# Altium integrated library Linear Technology Power Management Switching Regulator LTC1174-LTC3901.IntLib: 2647 symbols (part 91 of 364)
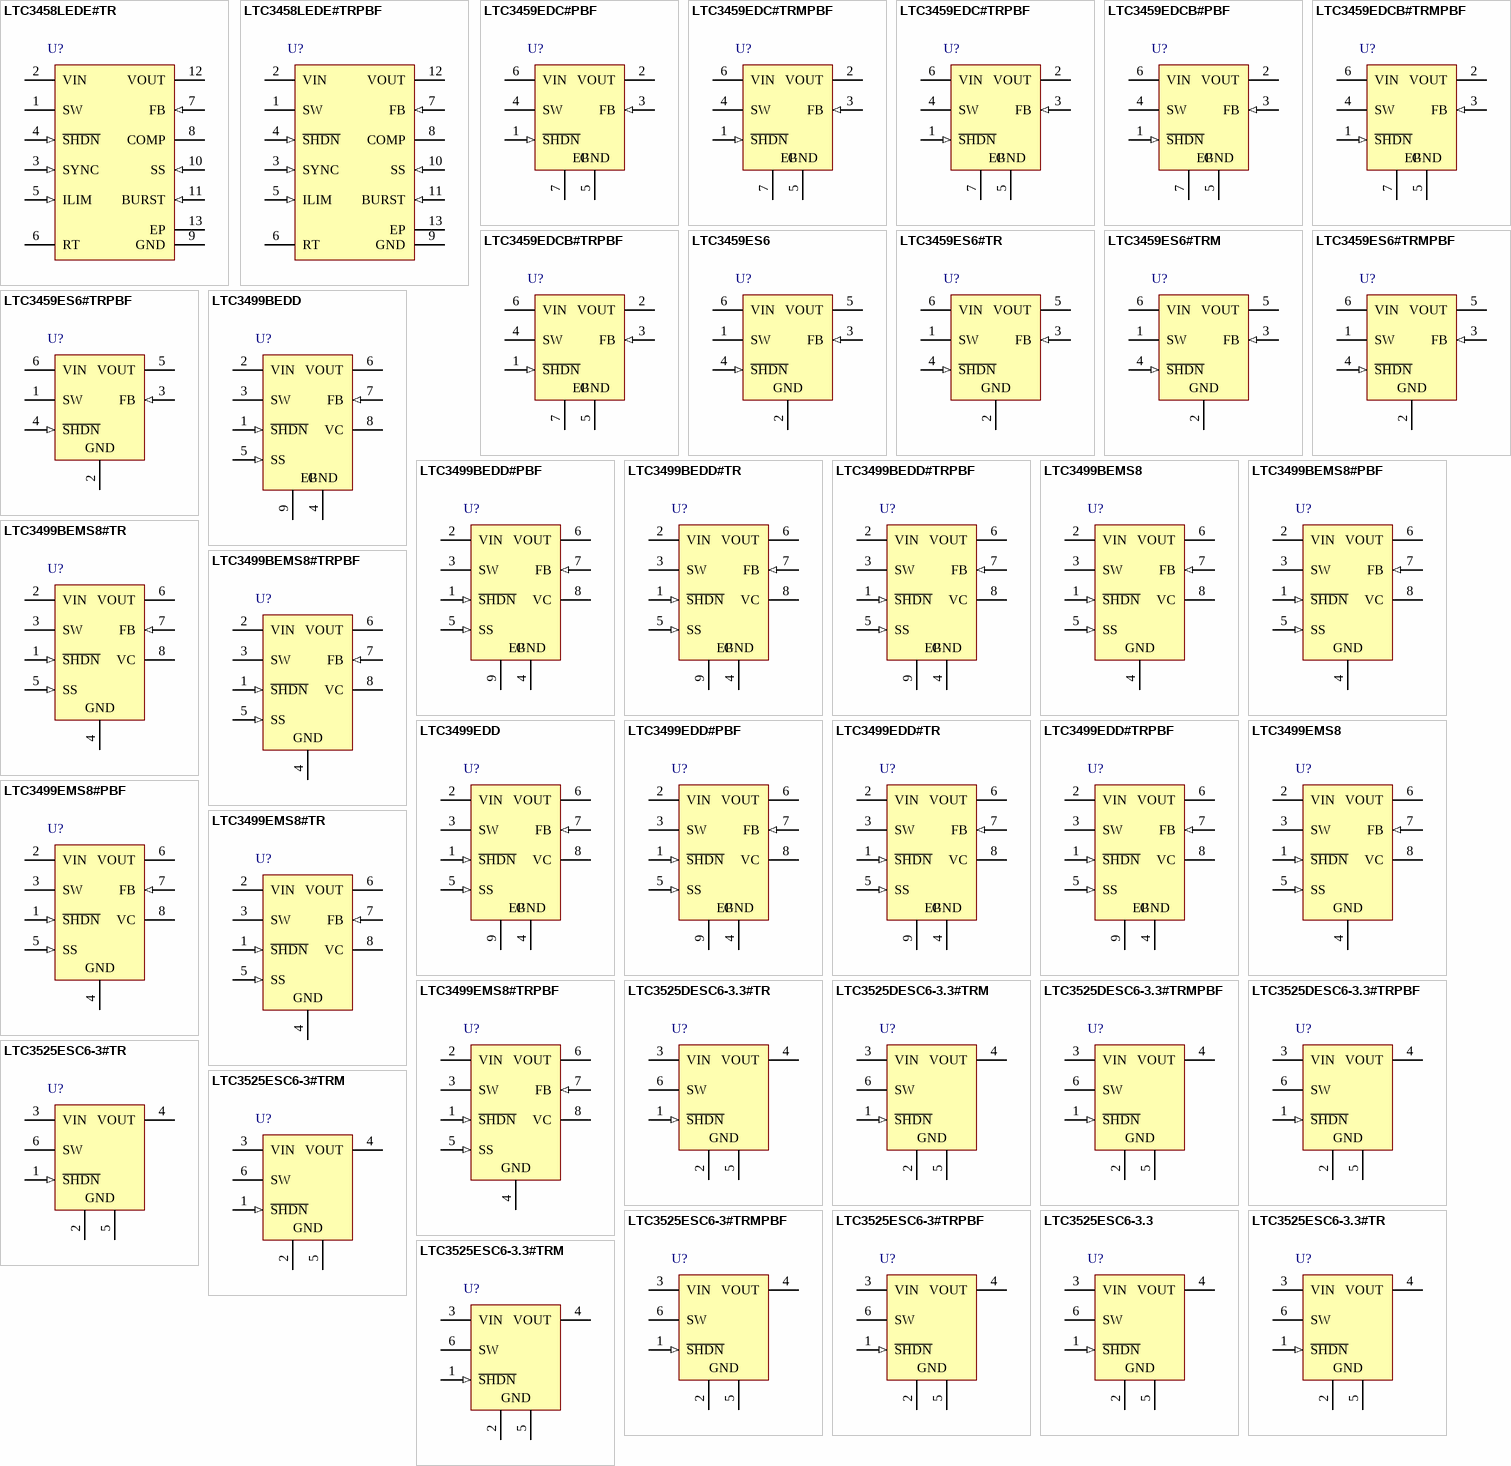
[diagram p261: symbols LTC3458LEDE#TR to LTC3525ESC6-3.3#TRM]

## LTC3525ESC6-3.3
designator U?
400 mA Micropower Synchronous Step-Up DC/DC Converter with Output Disconnect, 6-pin SOT23 (SC6-6), -40 to 85 degC; Manufacturer: Linear Technology; PartNumber: LTC3525ESC6-3.3; Number of Outputs: 1; DatasheetVersion: Rev. B; PackageVersion: Rev. B, 06/2010; PackageReference: SC6-6; PackageDescription: 6-Pin Plastic SC70, Body 2 x 1.25 mm, Pitch 0.65 mm; RoHS: FALSE; Mounting Technology: Surface Mount; Code_JEDEC: MO-203; ComponentLink1Description: Manufacturer URL; ComponentLink1URL: http://www.linear.com/; ComponentLink2Description: Datasheet; ComponentLink2URL: http://cds.linear.com/docs/en/datasheet/3525fb.pdf; ComponentLink3Description: Package Specification; ComponentLink3URL: http://cds.linear.com/docs/en/packaging/SOT_6_05-08-1638.pdf
footprint LT-SC6-6-SC70_N (SOT23, 6-Leads, Body 2.2x1.35mm, Pitch 0.65mm, IPC Medium Density)
footprint LT-SC6-6-SC70_L (SOT23, 6-Leads, Body 2.2x1.35mm, Pitch 0.65mm, IPC High Density)
footprint LT-SC6-6-SC70_M (SOT23, 6-Leads, Body 2.2x1.35mm, Pitch 0.65mm, IPC Low Density)
pins: 1 ~{SHDN} (in) "Logic-Controlled Shutdown Input.", 2 GND (power) "Ground.", 3 VIN (power) "Input Voltage.", 4 VOUT (power) "Output Voltage Sense and the Output of the Synchronous Rectifier. Connect the output filter capacitor from VOUT to GND, close to the IC. A minimum value of 10uF ceramic is recommended. Use 22uF for reduced output ripple.", 5 GND (power) "Ground.", 6 SW "Switch Pin. Connect an inductor from this pin to VIN. An internal antiringing resistor is connected across SW and VIN after the inductor current has dropped to zero to minimize EMI."

## LTC3525ESC6-3.3#TR
designator U?
400 mA Micropower Synchronous Step-Up DC/DC Converter with Output Disconnect, 6-pin SOT23 (SC6-6), -40 to 85 degC, Tape and Reel; Manufacturer: Linear Technology; PartNumber: LTC3525ESC6-3.3#TR; Number of Outputs: 1; DatasheetVersion: Rev. B; PackageVersion: Rev. B, 06/2010; PackageReference: SC6-6; PackageDescription: 6-Pin Plastic SC70, Body 2 x 1.25 mm, Pitch 0.65 mm; Packing: Tape and Reel; RoHS: FALSE; Mounting Technology: Surface Mount; Code_JEDEC: MO-203; ComponentLink1Description: Manufacturer URL; ComponentLink1URL: http://www.linear.com/; ComponentLink2Description: Datasheet; ComponentLink2URL: http://cds.linear.com/docs/en/datasheet/3525fb.pdf; ComponentLink3Description: Package Specification; ComponentLink3URL: http://cds.linear.com/docs/en/packaging/SOT_6_05-08-1638.pdf
footprint LT-SC6-6-SC70_N (SOT23, 6-Leads, Body 2.2x1.35mm, Pitch 0.65mm, IPC Medium Density)
footprint LT-SC6-6-SC70_L (SOT23, 6-Leads, Body 2.2x1.35mm, Pitch 0.65mm, IPC High Density)
footprint LT-SC6-6-SC70_M (SOT23, 6-Leads, Body 2.2x1.35mm, Pitch 0.65mm, IPC Low Density)
pins: 1 ~{SHDN} (in) "Logic-Controlled Shutdown Input.", 2 GND (power) "Ground.", 3 VIN (power) "Input Voltage.", 4 VOUT (power) "Output Voltage Sense and the Output of the Synchronous Rectifier. Connect the output filter capacitor from VOUT to GND, close to the IC. A minimum value of 10uF ceramic is recommended. Use 22uF for reduced output ripple.", 5 GND (power) "Ground.", 6 SW "Switch Pin. Connect an inductor from this pin to VIN. An internal antiringing resistor is connected across SW and VIN after the inductor current has dropped to zero to minimize EMI."

## LTC3525ESC6-3.3#TRM
designator U?
400 mA Micropower Synchronous Step-Up DC/DC Converter with Output Disconnect, 6-pin SOT23 (SC6-6), -40 to 85 degC, Mini Tape and Reel; Manufacturer: Linear Technology; PartNumber: LTC3525ESC6-3.3#TRM; Number of Outputs: 1; DatasheetVersion: Rev. B; PackageVersion: Rev. B, 06/2010; PackageReference: SC6-6; PackageDescription: 6-Pin Plastic SC70, Body 2 x 1.25 mm, Pitch 0.65 mm; Packing: Mini Tape and Reel; RoHS: FALSE; Mounting Technology: Surface Mount; Code_JEDEC: MO-203; ComponentLink1Description: Manufacturer URL; ComponentLink1URL: http://www.linear.com/; ComponentLink2Description: Datasheet; ComponentLink2URL: http://cds.linear.com/docs/en/datasheet/3525fb.pdf; ComponentLink3Description: Package Specification; ComponentLink3URL: http://cds.linear.com/docs/en/packaging/SOT_6_05-08-1638.pdf
footprint LT-SC6-6-SC70_N (SOT23, 6-Leads, Body 2.2x1.35mm, Pitch 0.65mm, IPC Medium Density)
footprint LT-SC6-6-SC70_L (SOT23, 6-Leads, Body 2.2x1.35mm, Pitch 0.65mm, IPC High Density)
footprint LT-SC6-6-SC70_M (SOT23, 6-Leads, Body 2.2x1.35mm, Pitch 0.65mm, IPC Low Density)
pins: 1 ~{SHDN} (in) "Logic-Controlled Shutdown Input.", 2 GND (power) "Ground.", 3 VIN (power) "Input Voltage.", 4 VOUT (power) "Output Voltage Sense and the Output of the Synchronous Rectifier. Connect the output filter capacitor from VOUT to GND, close to the IC. A minimum value of 10uF ceramic is recommended. Use 22uF for reduced output ripple.", 5 GND (power) "Ground.", 6 SW "Switch Pin. Connect an inductor from this pin to VIN. An internal antiringing resistor is connected across SW and VIN after the inductor current has dropped to zero to minimize EMI."

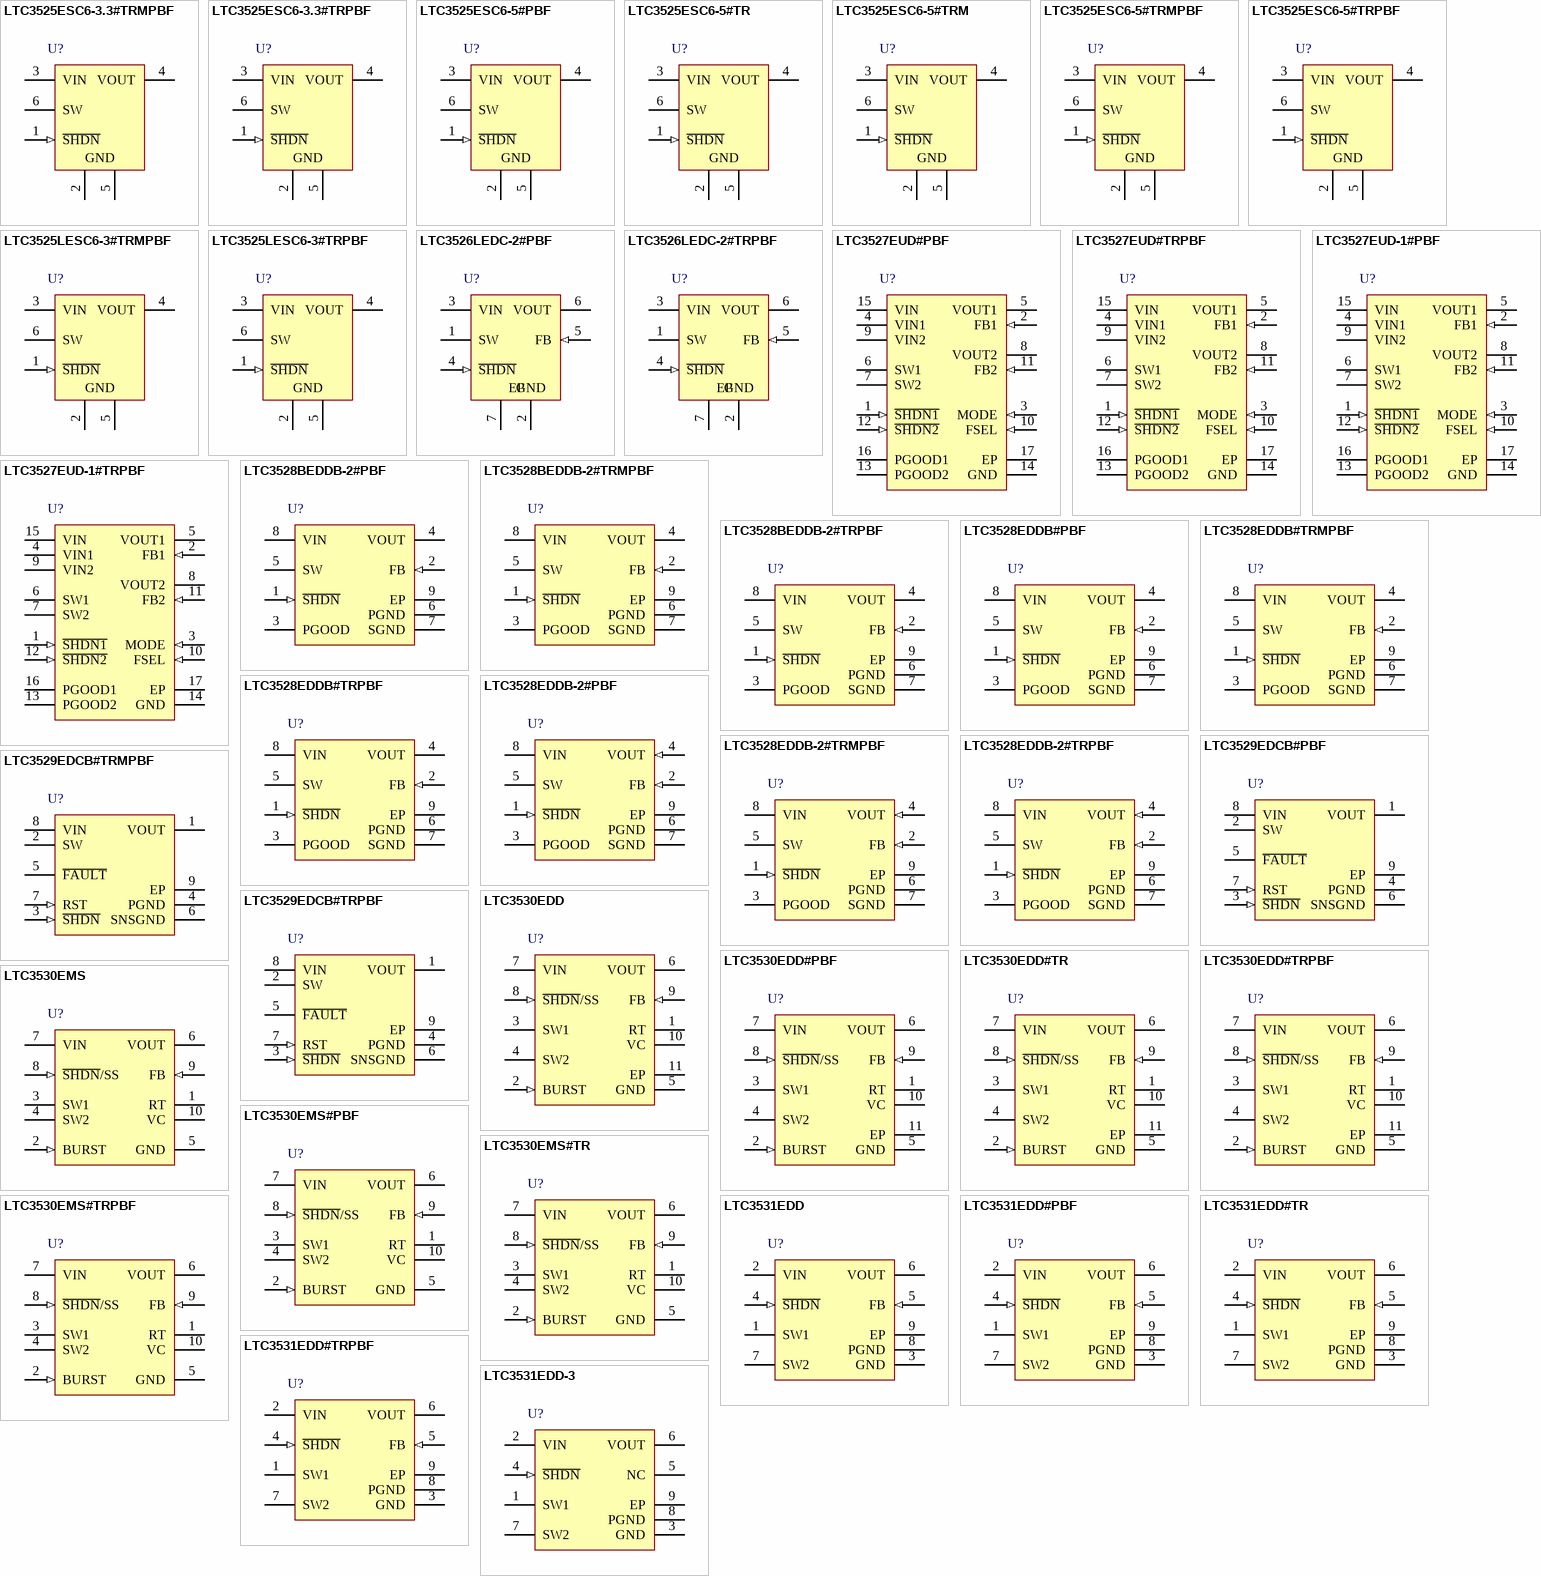
[diagram p29: symbols LTC3525ESC6-3.3#TRMPBF to LTC3531EDD-3]

## LTC3525ESC6-3.3#TRMPBF
designator U?
400 mA Micropower Synchronous Step-Up DC/DC Converter with Output Disconnect, 6-pin SOT23 (SC6-6), -40 to 85 degC, Pb-Free, Mini Tape and Reel; Manufacturer: Linear Technology; PartNumber: LTC3525ESC6-3.3#TRMPBF; Number of Outputs: 1; DatasheetVersion: Rev. B; PackageVersion: Rev. B, 06/2010; PackageReference: SC6-6; PackageDescription: 6-Pin Plastic SC70, Body 2 x 1.25 mm, Pitch 0.65 mm; Supplier 1: Digi-Key; Supplier Part Number 1: LTC3525ESC6-3.3#TRMPBFTR-ND; Supplier 2: Digi-Key; Supplier Part Number 2: LTC3525ESC6-3.3#TRMPBFCT-ND; Supplier 3: Digi-Key; Supplier Part Number 3: LTC3525ESC6-3.3#TRMPBFDKR-ND; Supplier 4: Farnell; Supplier Part Number 4: 1663904; Supplier 5: Farnell; Supplier Part Number 5: 1663904RL; Supplier 6: Newark; Supplier Part Number 6: 56M7892; Packing: Mini Tape and Reel; RoHS: TRUE; Mounting Technology: Surface Mount; Code_JEDEC: MO-203; ComponentLink1Description: Manufacturer URL; ComponentLink1URL: http://www.linear.com/; ComponentLink2Description: Datasheet; ComponentLink2URL: http://cds.linear.com/docs/en/datasheet/3525fb.pdf; ComponentLink3Description: Package Specification; ComponentLink3URL: http://cds.linear.com/docs/en/packaging/SOT_6_05-08-1638.pdf
footprint LT-SC6-6-SC70_N (SOT23, 6-Leads, Body 2.2x1.35mm, Pitch 0.65mm, IPC Medium Density)
footprint LT-SC6-6-SC70_L (SOT23, 6-Leads, Body 2.2x1.35mm, Pitch 0.65mm, IPC High Density)
footprint LT-SC6-6-SC70_M (SOT23, 6-Leads, Body 2.2x1.35mm, Pitch 0.65mm, IPC Low Density)
pins: 1 ~{SHDN} (in) "Logic-Controlled Shutdown Input.", 2 GND (power) "Ground.", 3 VIN (power) "Input Voltage.", 4 VOUT (power) "Output Voltage Sense and the Output of the Synchronous Rectifier. Connect the output filter capacitor from VOUT to GND, close to the IC. A minimum value of 10uF ceramic is recommended. Use 22uF for reduced output ripple.", 5 GND (power) "Ground.", 6 SW "Switch Pin. Connect an inductor from this pin to VIN. An internal antiringing resistor is connected across SW and VIN after the inductor current has dropped to zero to minimize EMI."

## LTC3525ESC6-3.3#TRPBF
designator U?
400 mA Micropower Synchronous Step-Up DC/DC Converter with Output Disconnect, 6-pin SOT23 (SC6-6), -40 to 85 degC, Pb-Free, Tape and Reel; Manufacturer: Linear Technology; PartNumber: LTC3525ESC6-3.3#TRPBF; Number of Outputs: 1; DatasheetVersion: Rev. B; PackageVersion: Rev. B, 06/2010; PackageReference: SC6-6; PackageDescription: 6-Pin Plastic SC70, Body 2 x 1.25 mm, Pitch 0.65 mm; Supplier 1: Digi-Key; Supplier Part Number 1: LTC3525ESC6-3.3#TRPBF-ND; Supplier 2: Newark; Supplier Part Number 2: 56M7893; Packing: Tape and Reel; RoHS: TRUE; Mounting Technology: Surface Mount; Code_JEDEC: MO-203; ComponentLink1Description: Manufacturer URL; ComponentLink1URL: http://www.linear.com/; ComponentLink2Description: Datasheet; ComponentLink2URL: http://cds.linear.com/docs/en/datasheet/3525fb.pdf; ComponentLink3Description: Package Specification; ComponentLink3URL: http://cds.linear.com/docs/en/packaging/SOT_6_05-08-1638.pdf
footprint LT-SC6-6-SC70_N (SOT23, 6-Leads, Body 2.2x1.35mm, Pitch 0.65mm, IPC Medium Density)
footprint LT-SC6-6-SC70_L (SOT23, 6-Leads, Body 2.2x1.35mm, Pitch 0.65mm, IPC High Density)
footprint LT-SC6-6-SC70_M (SOT23, 6-Leads, Body 2.2x1.35mm, Pitch 0.65mm, IPC Low Density)
pins: 1 ~{SHDN} (in) "Logic-Controlled Shutdown Input.", 2 GND (power) "Ground.", 3 VIN (power) "Input Voltage.", 4 VOUT (power) "Output Voltage Sense and the Output of the Synchronous Rectifier. Connect the output filter capacitor from VOUT to GND, close to the IC. A minimum value of 10uF ceramic is recommended. Use 22uF for reduced output ripple.", 5 GND (power) "Ground.", 6 SW "Switch Pin. Connect an inductor from this pin to VIN. An internal antiringing resistor is connected across SW and VIN after the inductor current has dropped to zero to minimize EMI."

## LTC3525ESC6-5#PBF
designator U?
400 mA Micropower Synchronous Step-Up DC/DC Converter with Output Disconnect, 6-pin SOT23 (SC6-6), -40 to 85 degC; Manufacturer: Linear Technology; PartNumber: LTC3525ESC6-5#PBF; Number of Outputs: 1; DatasheetVersion: Rev. B; PackageVersion: Rev. B, 06/2010; PackageReference: SC6-6; PackageDescription: 6-Pin Plastic SC70, Body 2 x 1.25 mm, Pitch 0.65 mm; Supplier 1: Farnell; Supplier Part Number 1: 2308145; Supplier 2: Newark; Supplier Part Number 2: 78T3194; RoHS: TRUE; Mounting Technology: Surface Mount; Code_JEDEC: MO-203; ComponentLink1Description: Manufacturer URL; ComponentLink1URL: http://www.linear.com/; ComponentLink2Description: Datasheet; ComponentLink2URL: http://cds.linear.com/docs/en/datasheet/3525fb.pdf; ComponentLink3Description: Package Specification; ComponentLink3URL: http://cds.linear.com/docs/en/packaging/SOT_6_05-08-1638.pdf
footprint LT-SC6-6-SC70_N (SOT23, 6-Leads, Body 2.2x1.35mm, Pitch 0.65mm, IPC Medium Density)
footprint LT-SC6-6-SC70_L (SOT23, 6-Leads, Body 2.2x1.35mm, Pitch 0.65mm, IPC High Density)
footprint LT-SC6-6-SC70_M (SOT23, 6-Leads, Body 2.2x1.35mm, Pitch 0.65mm, IPC Low Density)
pins: 1 ~{SHDN} (in) "Logic-Controlled Shutdown Input.", 2 GND (power) "Ground.", 3 VIN (power) "Input Voltage.", 4 VOUT (power) "Output Voltage Sense and the Output of the Synchronous Rectifier. Connect the output filter capacitor from VOUT to GND, close to the IC. A minimum value of 10uF ceramic is recommended. Use 22uF for reduced output ripple.", 5 GND (power) "Ground.", 6 SW "Switch Pin. Connect an inductor from this pin to VIN. An internal antiringing resistor is connected across SW and VIN after the inductor current has dropped to zero to minimize EMI."

## LTC3525ESC6-5#TR
designator U?
400 mA Micropower Synchronous Step-Up DC/DC Converter with Output Disconnect, 6-pin SOT23 (SC6-6), -40 to 85 degC, Tape and Reel; Manufacturer: Linear Technology; PartNumber: LTC3525ESC6-5#TR; Number of Outputs: 1; DatasheetVersion: Rev. B; PackageVersion: Rev. B, 06/2010; PackageReference: SC6-6; PackageDescription: 6-Pin Plastic SC70, Body 2 x 1.25 mm, Pitch 0.65 mm; Supplier 1: Newark; Supplier Part Number 1: 56M7894; Packing: Tape and Reel; RoHS: FALSE; Mounting Technology: Surface Mount; Code_JEDEC: MO-203; ComponentLink1Description: Manufacturer URL; ComponentLink1URL: http://www.linear.com/; ComponentLink2Description: Datasheet; ComponentLink2URL: http://cds.linear.com/docs/en/datasheet/3525fb.pdf; ComponentLink3Description: Package Specification; ComponentLink3URL: http://cds.linear.com/docs/en/packaging/SOT_6_05-08-1638.pdf
footprint LT-SC6-6-SC70_N (SOT23, 6-Leads, Body 2.2x1.35mm, Pitch 0.65mm, IPC Medium Density)
footprint LT-SC6-6-SC70_L (SOT23, 6-Leads, Body 2.2x1.35mm, Pitch 0.65mm, IPC High Density)
footprint LT-SC6-6-SC70_M (SOT23, 6-Leads, Body 2.2x1.35mm, Pitch 0.65mm, IPC Low Density)
pins: 1 ~{SHDN} (in) "Logic-Controlled Shutdown Input.", 2 GND (power) "Ground.", 3 VIN (power) "Input Voltage.", 4 VOUT (power) "Output Voltage Sense and the Output of the Synchronous Rectifier. Connect the output filter capacitor from VOUT to GND, close to the IC. A minimum value of 10uF ceramic is recommended. Use 22uF for reduced output ripple.", 5 GND (power) "Ground.", 6 SW "Switch Pin. Connect an inductor from this pin to VIN. An internal antiringing resistor is connected across SW and VIN after the inductor current has dropped to zero to minimize EMI."

## LTC3525ESC6-5#TRM
designator U?
400 mA Micropower Synchronous Step-Up DC/DC Converter with Output Disconnect, 6-pin SOT23 (SC6-6), -40 to 85 degC, Mini Tape and Reel; Manufacturer: Linear Technology; PartNumber: LTC3525ESC6-5#TRM; Number of Outputs: 1; DatasheetVersion: Rev. B; PackageVersion: Rev. B, 06/2010; PackageReference: SC6-6; PackageDescription: 6-Pin Plastic SC70, Body 2 x 1.25 mm, Pitch 0.65 mm; Packing: Mini Tape and Reel; RoHS: FALSE; Mounting Technology: Surface Mount; Code_JEDEC: MO-203; ComponentLink1Description: Manufacturer URL; ComponentLink1URL: http://www.linear.com/; ComponentLink2Description: Datasheet; ComponentLink2URL: http://cds.linear.com/docs/en/datasheet/3525fb.pdf; ComponentLink3Description: Package Specification; ComponentLink3URL: http://cds.linear.com/docs/en/packaging/SOT_6_05-08-1638.pdf
footprint LT-SC6-6-SC70_N (SOT23, 6-Leads, Body 2.2x1.35mm, Pitch 0.65mm, IPC Medium Density)
footprint LT-SC6-6-SC70_L (SOT23, 6-Leads, Body 2.2x1.35mm, Pitch 0.65mm, IPC High Density)
footprint LT-SC6-6-SC70_M (SOT23, 6-Leads, Body 2.2x1.35mm, Pitch 0.65mm, IPC Low Density)
pins: 1 ~{SHDN} (in) "Logic-Controlled Shutdown Input.", 2 GND (power) "Ground.", 3 VIN (power) "Input Voltage.", 4 VOUT (power) "Output Voltage Sense and the Output of the Synchronous Rectifier. Connect the output filter capacitor from VOUT to GND, close to the IC. A minimum value of 10uF ceramic is recommended. Use 22uF for reduced output ripple.", 5 GND (power) "Ground.", 6 SW "Switch Pin. Connect an inductor from this pin to VIN. An internal antiringing resistor is connected across SW and VIN after the inductor current has dropped to zero to minimize EMI."

## LTC3525ESC6-5#TRMPBF
designator U?
400 mA Micropower Synchronous Step-Up DC/DC Converter with Output Disconnect, 6-pin SOT23 (SC6-6), -40 to 85 degC, Pb-Free, Mini Tape and Reel; Manufacturer: Linear Technology; PartNumber: LTC3525ESC6-5#TRMPBF; Number of Outputs: 1; DatasheetVersion: Rev. B; PackageVersion: Rev. B, 06/2010; PackageReference: SC6-6; PackageDescription: 6-Pin Plastic SC70, Body 2 x 1.25 mm, Pitch 0.65 mm; Supplier 1: Digi-Key; Supplier Part Number 1: LTC3525ESC6-5#TRMPBFTR-ND; Supplier 2: Digi-Key; Supplier Part Number 2: LTC3525ESC6-5#TRMPBFCT-ND; Supplier 3: Digi-Key; Supplier Part Number 3: LTC3525ESC6-5#TRMPBFDKR-ND; Supplier 4: Farnell; Supplier Part Number 4: 1663905; Supplier 5: Farnell; Supplier Part Number 5: 1663905RL; Packing: Mini Tape and Reel; RoHS: TRUE; Mounting Technology: Surface Mount; Code_JEDEC: MO-203; ComponentLink1Description: Manufacturer URL; ComponentLink1URL: http://www.linear.com/; ComponentLink2Description: Datasheet; ComponentLink2URL: http://cds.linear.com/docs/en/datasheet/3525fb.pdf; ComponentLink3Description: Package Specification; ComponentLink3URL: http://cds.linear.com/docs/en/packaging/SOT_6_05-08-1638.pdf
footprint LT-SC6-6-SC70_N (SOT23, 6-Leads, Body 2.2x1.35mm, Pitch 0.65mm, IPC Medium Density)
footprint LT-SC6-6-SC70_L (SOT23, 6-Leads, Body 2.2x1.35mm, Pitch 0.65mm, IPC High Density)
footprint LT-SC6-6-SC70_M (SOT23, 6-Leads, Body 2.2x1.35mm, Pitch 0.65mm, IPC Low Density)
pins: 1 ~{SHDN} (in) "Logic-Controlled Shutdown Input.", 2 GND (power) "Ground.", 3 VIN (power) "Input Voltage.", 4 VOUT (power) "Output Voltage Sense and the Output of the Synchronous Rectifier. Connect the output filter capacitor from VOUT to GND, close to the IC. A minimum value of 10uF ceramic is recommended. Use 22uF for reduced output ripple.", 5 GND (power) "Ground.", 6 SW "Switch Pin. Connect an inductor from this pin to VIN. An internal antiringing resistor is connected across SW and VIN after the inductor current has dropped to zero to minimize EMI."

## LTC3525ESC6-5#TRPBF
designator U?
400 mA Micropower Synchronous Step-Up DC/DC Converter with Output Disconnect, 6-pin SOT23 (SC6-6), -40 to 85 degC, Pb-Free, Tape and Reel; Manufacturer: Linear Technology; PartNumber: LTC3525ESC6-5#TRPBF; Number of Outputs: 1; DatasheetVersion: Rev. B; PackageVersion: Rev. B, 06/2010; PackageReference: SC6-6; PackageDescription: 6-Pin Plastic SC70, Body 2 x 1.25 mm, Pitch 0.65 mm; Supplier 1: Digi-Key; Supplier Part Number 1: LTC3525ESC6-5#TRPBF-ND; Supplier 2: Newark; Supplier Part Number 2: 56M7897; Packing: Tape and Reel; RoHS: TRUE; Mounting Technology: Surface Mount; Code_JEDEC: MO-203; ComponentLink1Description: Manufacturer URL; ComponentLink1URL: http://www.linear.com/; ComponentLink2Description: Datasheet; ComponentLink2URL: http://cds.linear.com/docs/en/datasheet/3525fb.pdf; ComponentLink3Description: Package Specification; ComponentLink3URL: http://cds.linear.com/docs/en/packaging/SOT_6_05-08-1638.pdf
footprint LT-SC6-6-SC70_N (SOT23, 6-Leads, Body 2.2x1.35mm, Pitch 0.65mm, IPC Medium Density)
footprint LT-SC6-6-SC70_L (SOT23, 6-Leads, Body 2.2x1.35mm, Pitch 0.65mm, IPC High Density)
footprint LT-SC6-6-SC70_M (SOT23, 6-Leads, Body 2.2x1.35mm, Pitch 0.65mm, IPC Low Density)
pins: 1 ~{SHDN} (in) "Logic-Controlled Shutdown Input.", 2 GND (power) "Ground.", 3 VIN (power) "Input Voltage.", 4 VOUT (power) "Output Voltage Sense and the Output of the Synchronous Rectifier. Connect the output filter capacitor from VOUT to GND, close to the IC. A minimum value of 10uF ceramic is recommended. Use 22uF for reduced output ripple.", 5 GND (power) "Ground.", 6 SW "Switch Pin. Connect an inductor from this pin to VIN. An internal antiringing resistor is connected across SW and VIN after the inductor current has dropped to zero to minimize EMI."

## LTC3525LESC6-3#TRMPBF
designator U?
400 mA Micropower Synchronous Step-Up DC/DC Converter with Output Disconnect, 6-pin SOT23 (SC6-6), -40 to 85 degC, Pb-Free, Mini Tape and Reel; Manufacturer: Linear Technology; PartNumber: LTC3525LESC6-3#TRMPBF; Number of Outputs: 1; DatasheetVersion: Rev. A; PackageVersion: Rev. B, 06/2010; PackageReference: SC6-6; PackageDescription: 6-Pin Plastic SC70, Body 2 x 1.25 mm, Pitch 0.65 mm; Supplier 1: Digi-Key; Supplier Part Number 1: LTC3525LESC6-3#TRMPBF-ND; Packing: Mini Tape and Reel; RoHS: TRUE; Mounting Technology: Surface Mount; Code_JEDEC: MO-203; ComponentLink1Description: Manufacturer URL; ComponentLink1URL: http://www.linear.com/; ComponentLink2Description: Datasheet; ComponentLink2URL: http://cds.linear.com/docs/en/datasheet/3525laf.pdf; ComponentLink3Description: Package Specification; ComponentLink3URL: http://cds.linear.com/docs/en/packaging/SOT_6_05-08-1638.pdf
footprint LT-SC6-6-SC70_N (SOT23, 6-Leads, Body 2.2x1.35mm, Pitch 0.65mm, IPC Medium Density)
footprint LT-SC6-6-SC70_L (SOT23, 6-Leads, Body 2.2x1.35mm, Pitch 0.65mm, IPC High Density)
footprint LT-SC6-6-SC70_M (SOT23, 6-Leads, Body 2.2x1.35mm, Pitch 0.65mm, IPC Low Density)
pins: 1 ~{SHDN} (in) "Logic-Controlled Shutdown Input.", 2 GND (power) "Ground.", 3 VIN (power) "Input Voltage.", 4 VOUT (power) "Output Voltage Sense and the Output of the Synchronous Rectifier. Connect the output filter capacitor from VOUT to GND, close to the IC. A minimum value of 10uF ceramic is recommended. Use 22uF for reduced output ripple.", 5 GND (power) "Ground.", 6 SW "Switch Pin. Connect an inductor from this pin to VIN. An internal antiringing resistor is connected across SW and VIN after the inductor current has dropped to zero to minimize EMI."

## LTC3525LESC6-3#TRPBF
designator U?
400 mA Micropower Synchronous Step-Up DC/DC Converter with Output Disconnect, 6-pin SOT23 (SC6-6), -40 to 85 degC, Pb-Free, Tape and Reel; Manufacturer: Linear Technology; PartNumber: LTC3525LESC6-3#TRPBF; Number of Outputs: 1; DatasheetVersion: Rev. A; PackageVersion: Rev. B, 06/2010; PackageReference: SC6-6; PackageDescription: 6-Pin Plastic SC70, Body 2 x 1.25 mm, Pitch 0.65 mm; Supplier 1: Digi-Key; Supplier Part Number 1: LTC3525LESC6-3#TRPBF-ND; Supplier 2: Newark; Supplier Part Number 2: 56M7899; Packing: Tape and Reel; RoHS: TRUE; Mounting Technology: Surface Mount; Code_JEDEC: MO-203; ComponentLink1Description: Manufacturer URL; ComponentLink1URL: http://www.linear.com/; ComponentLink2Description: Datasheet; ComponentLink2URL: http://cds.linear.com/docs/en/datasheet/3525laf.pdf; ComponentLink3Description: Package Specification; ComponentLink3URL: http://cds.linear.com/docs/en/packaging/SOT_6_05-08-1638.pdf
footprint LT-SC6-6-SC70_N (SOT23, 6-Leads, Body 2.2x1.35mm, Pitch 0.65mm, IPC Medium Density)
footprint LT-SC6-6-SC70_L (SOT23, 6-Leads, Body 2.2x1.35mm, Pitch 0.65mm, IPC High Density)
footprint LT-SC6-6-SC70_M (SOT23, 6-Leads, Body 2.2x1.35mm, Pitch 0.65mm, IPC Low Density)
pins: 1 ~{SHDN} (in) "Logic-Controlled Shutdown Input.", 2 GND (power) "Ground.", 3 VIN (power) "Input Voltage.", 4 VOUT (power) "Output Voltage Sense and the Output of the Synchronous Rectifier. Connect the output filter capacitor from VOUT to GND, close to the IC. A minimum value of 10uF ceramic is recommended. Use 22uF for reduced output ripple.", 5 GND (power) "Ground.", 6 SW "Switch Pin. Connect an inductor from this pin to VIN. An internal antiringing resistor is connected across SW and VIN after the inductor current has dropped to zero to minimize EMI."